# Altium schematic symbol library MIMX8MN6DVTJZAA.SchLib: 1 symbol
Pins are listed as number, name and electrical type; pins without a type are passive.

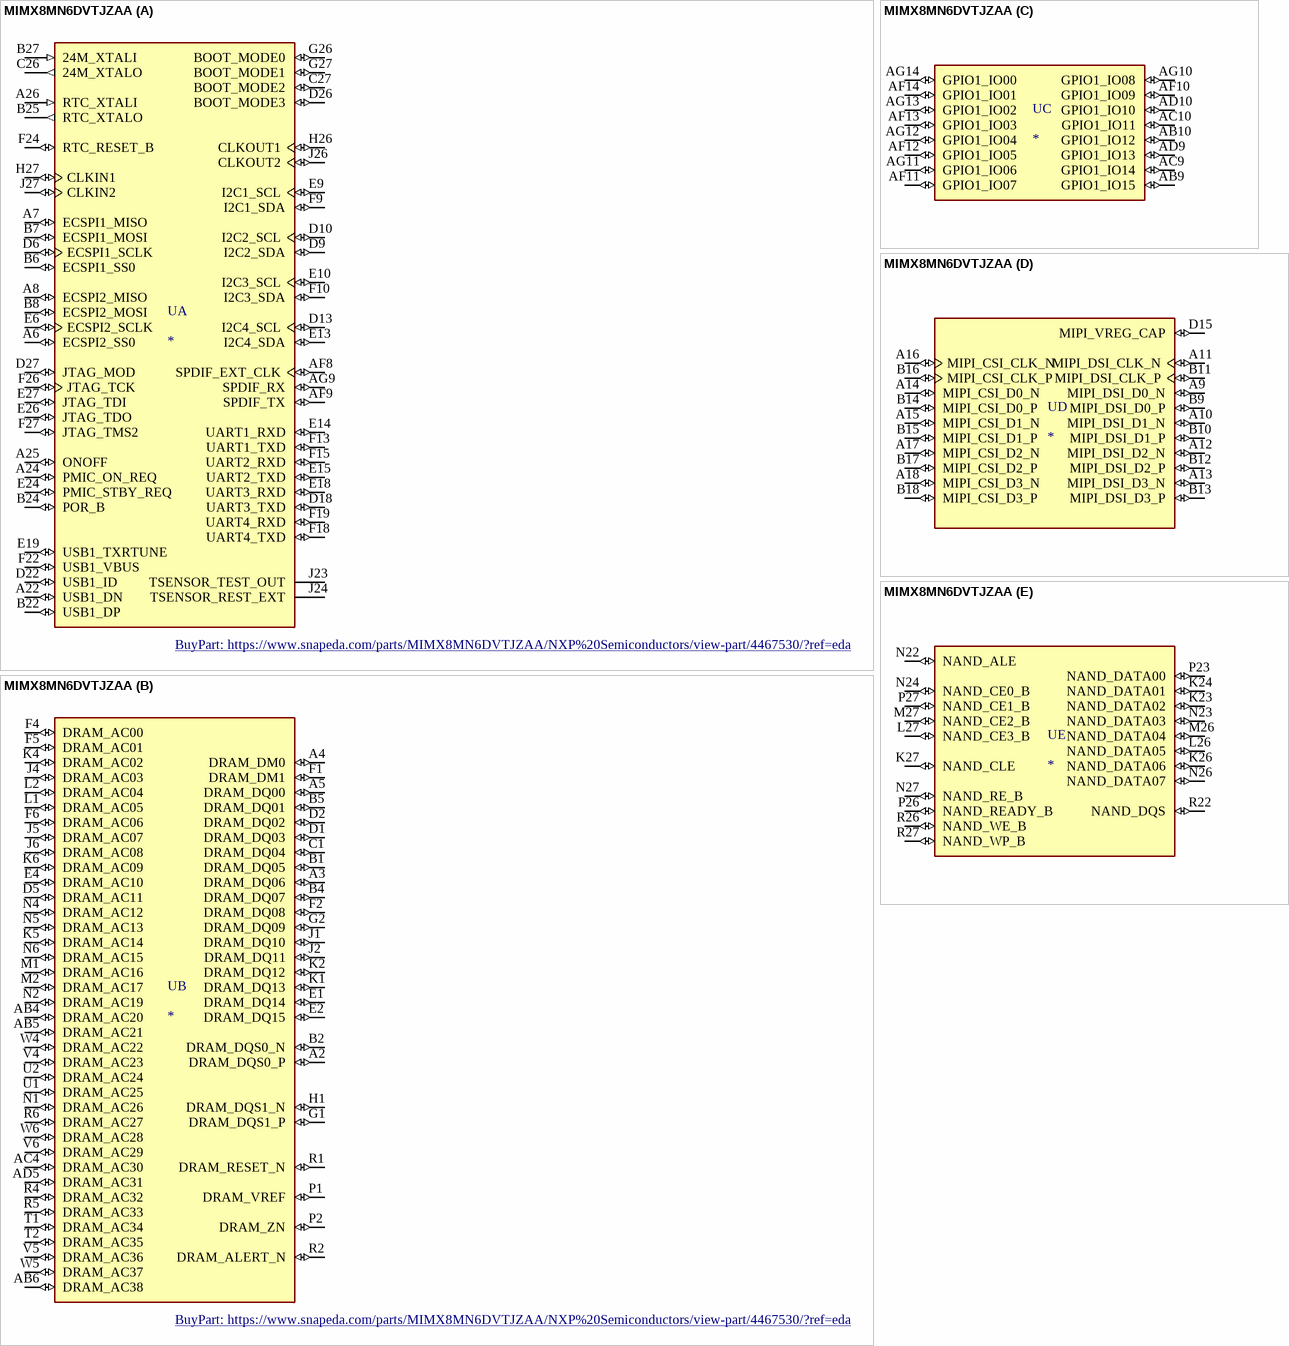
[diagram p0: symbol MIMX8MN6DVTJZAA]

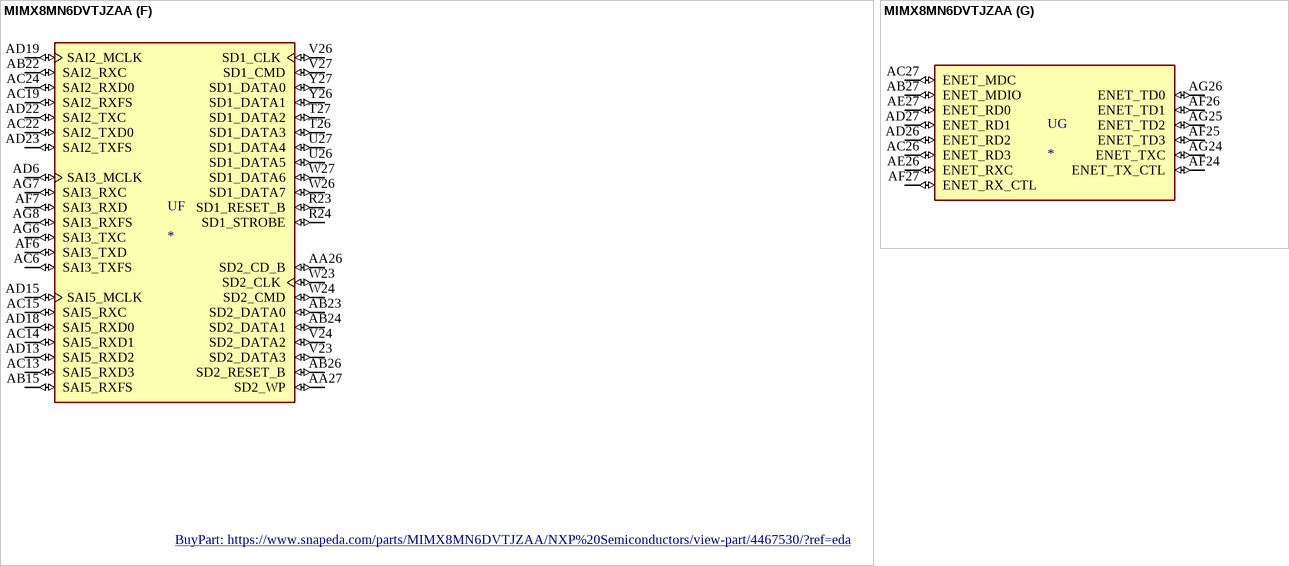
[diagram p1: symbol MIMX8MN6DVTJZAA]

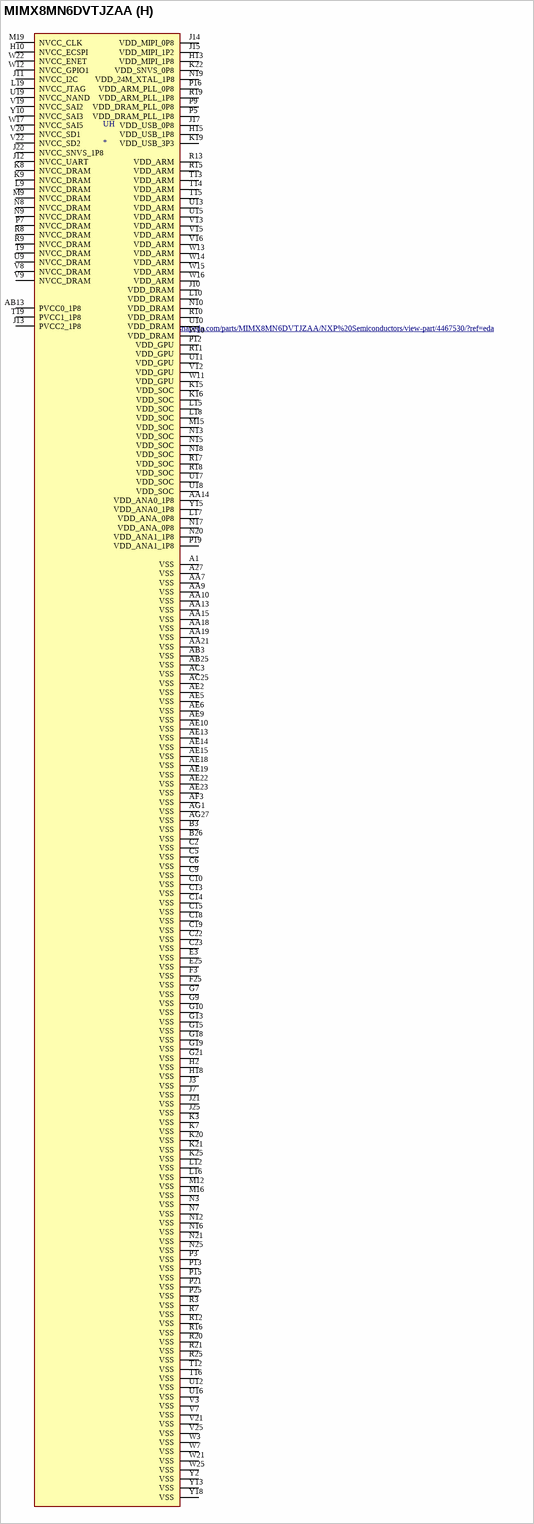
[diagram p2: symbol MIMX8MN6DVTJZAA]

## MIMX8MN6DVTJZAA
designator U
ARMÂ® CortexÂ®-A53 Microprocessor IC i.MX8MN 4 Core, 32-Bit 1.5GHz 486-LFBGA (14x14); MF: NXP USA Inc.; MP: MIMX8MN6DVTJZAA; Package: LFBGA-486 NXP USA Inc.; Price: None; Mouser-Purchase-URL: https://snapeda.com/shop?store=Mouser&id=4467530; Availability: Warning; SnapEDA_Link: https://www.snapeda.com/parts/MIMX8MN6DVTJZAA/NXP%20Semiconductors/view-part/4467530/?ref=snap; Value: *; Arrow_Electronics-Purchase-URL: https://snapeda.com/shop?store=Arrow+Electronics&id=4467530; BuyPart: https://www.snapeda.com/parts/MIMX8MN6DVTJZAA/NXP%20Semiconductors/view-part/4467530/?ref=eda
footprint BGA486N50P27X27_1400X1400X125N
part A pins: A6 ECSPI2_SS0 (io), A7 ECSPI1_MISO (io), A8 ECSPI2_MISO (io), A22 USB1_DN (io), A24 PMIC_ON_REQ (io), A25 ONOFF (io), A26 RTC_XTALI (in), AF8 SPDIF_EXT_CLK (io), AF9 SPDIF_TX (io), AG9 SPDIF_RX (io), B6 ECSPI1_SS0 (io), B7 ECSPI1_MOSI (io), B8 ECSPI2_MOSI (io), B22 USB1_DP (io), B24 POR_B (io), B25 RTC_XTALO (out), B27 24M_XTALI (in), C26 24M_XTALO (out), C27 BOOT_MODE2 (io), D6 ECSPI1_SCLK (io), D9 I2C2_SDA (io), D10 I2C2_SCL (io), D13 I2C4_SCL (io), D18 UART3_TXD (io), D22 USB1_ID (io), D26 BOOT_MODE3 (io), D27 JTAG_MOD (io), E6 ECSPI2_SCLK (io), E9 I2C1_SCL (io), E10 I2C3_SCL (io), E13 I2C4_SDA (io), E14 UART1_RXD (io), E15 UART2_TXD (io), E18 UART3_RXD (io), E19 USB1_TXRTUNE (io), E24 PMIC_STBY_REQ (io), E26 JTAG_TDO (io), E27 JTAG_TDI (io), F9 I2C1_SDA (io), F10 I2C3_SDA (io), F13 UART1_TXD (io), F15 UART2_RXD (io), F18 UART4_TXD (io), F19 UART4_RXD (io), F22 USB1_VBUS (io), F24 RTC_RESET_B (io), F26 JTAG_TCK (io), F27 JTAG_TMS2 (io), G26 BOOT_MODE0 (io), G27 BOOT_MODE1 (io), H26 CLKOUT1 (io), H27 CLKIN1 (io), J23 TSENSOR_TEST_OUT, J24 TSENSOR_REST_EXT, J26 CLKOUT2 (io), J27 CLKIN2 (io)
part B pins: A2 DRAM_DQS0_P (io), A3 DRAM_DQ06 (io), A4 DRAM_DM0 (io), A5 DRAM_DQ00 (io), AB4 DRAM_AC20 (io), AB5 DRAM_AC21 (io), AB6 DRAM_AC38 (io), AC4 DRAM_AC30 (io), AD5 DRAM_AC31 (io), B1 DRAM_DQ05 (io), B2 DRAM_DQS0_N (io), B4 DRAM_DQ07 (io), B5 DRAM_DQ01 (io), C1 DRAM_DQ04 (io), D1 DRAM_DQ03 (io), D2 DRAM_DQ02 (io), D5 DRAM_AC11 (io), E1 DRAM_DQ14 (io), E2 DRAM_DQ15 (io), E4 DRAM_AC10 (io), F1 DRAM_DM1 (io), F2 DRAM_DQ08 (io), F4 DRAM_AC00 (io), F5 DRAM_AC01 (io), F6 DRAM_AC06 (io), G1 DRAM_DQS1_P (io), G2 DRAM_DQ09 (io), H1 DRAM_DQS1_N (io), J1 DRAM_DQ10 (io), J2 DRAM_DQ11 (io), J4 DRAM_AC03 (io), J5 DRAM_AC07 (io), J6 DRAM_AC08 (io), K1 DRAM_DQ13 (io), K2 DRAM_DQ12 (io), K4 DRAM_AC02 (io), K5 DRAM_AC14 (io), K6 DRAM_AC09 (io), L1 DRAM_AC05 (io), L2 DRAM_AC04 (io), M1 DRAM_AC16 (io), M2 DRAM_AC17 (io), N1 DRAM_AC26 (io), N2 DRAM_AC19 (io), N4 DRAM_AC12 (io), N5 DRAM_AC13 (io), N6 DRAM_AC15 (io), P1 DRAM_VREF (io), P2 DRAM_ZN (io), R1 DRAM_RESET_N (io), R2 DRAM_ALERT_N (io), R4 DRAM_AC32 (io), R5 DRAM_AC33 (io), R6 DRAM_AC27 (io), T1 DRAM_AC34 (io), T2 DRAM_AC35 (io), U1 DRAM_AC25 (io), U2 DRAM_AC24 (io), V4 DRAM_AC23 (io), V5 DRAM_AC36 (io), V6 DRAM_AC29 (io), W4 DRAM_AC22 (io), W5 DRAM_AC37 (io), W6 DRAM_AC28 (io)
part C pins: AB9 GPIO1_IO15 (io), AB10 GPIO1_IO12 (io), AC9 GPIO1_IO14 (io), AC10 GPIO1_IO11 (io), AD9 GPIO1_IO13 (io), AD10 GPIO1_IO10 (io), AF10 GPIO1_IO09 (io), AF11 GPIO1_IO07 (io), AF12 GPIO1_IO05 (io), AF13 GPIO1_IO03 (io), AF14 GPIO1_IO01 (io), AG10 GPIO1_IO08 (io), AG11 GPIO1_IO06 (io), AG12 GPIO1_IO04 (io), AG13 GPIO1_IO02 (io), AG14 GPIO1_IO00 (io)
part D pins: A9 MIPI_DSI_D0_N (io), A10 MIPI_DSI_D1_N (io), A11 MIPI_DSI_CLK_N (io), A12 MIPI_DSI_D2_N (io), A13 MIPI_DSI_D3_N (io), A14 MIPI_CSI_D0_N (io), A15 MIPI_CSI_D1_N (io), A16 MIPI_CSI_CLK_N (io), A17 MIPI_CSI_D2_N (io), A18 MIPI_CSI_D3_N (io), B9 MIPI_DSI_D0_P (io), B10 MIPI_DSI_D1_P (io), B11 MIPI_DSI_CLK_P (io), B12 MIPI_DSI_D2_P (io), B13 MIPI_DSI_D3_P (io), B14 MIPI_CSI_D0_P (io), B15 MIPI_CSI_D1_P (io), B16 MIPI_CSI_CLK_P (io), B17 MIPI_CSI_D2_P (io), B18 MIPI_CSI_D3_P (io), D15 MIPI_VREG_CAP (io)
part E pins: K23 NAND_DATA02 (io), K24 NAND_DATA01 (io), K26 NAND_DATA06 (io), K27 NAND_CLE (io), L26 NAND_DATA05 (io), L27 NAND_CE3_B (io), M26 NAND_DATA04 (io), M27 NAND_CE2_B (io), N22 NAND_ALE (io), N23 NAND_DATA03 (io), N24 NAND_CE0_B (io), N26 NAND_DATA07 (io), N27 NAND_RE_B (io), P23 NAND_DATA00 (io), P26 NAND_READY_B (io), P27 NAND_CE1_B (io), R22 NAND_DQS (io), R26 NAND_WE_B (io), R27 NAND_WP_B (io)
part F pins: AA26 SD2_CD_B (io), AA27 SD2_WP (io), AB15 SAI5_RXFS (io), AB22 SAI2_RXC (io), AB23 SD2_DATA0 (io), AB24 SD2_DATA1 (io), AB26 SD2_RESET_B (io), AC6 SAI3_TXFS (io), AC13 SAI5_RXD3 (io), AC14 SAI5_RXD1 (io), AC15 SAI5_RXC (io), AC19 SAI2_RXFS (io), AC22 SAI2_TXD0 (io), AC24 SAI2_RXD0 (io), AD6 SAI3_MCLK (io), AD13 SAI5_RXD2 (io), AD15 SAI5_MCLK (io), AD18 SAI5_RXD0 (io), AD19 SAI2_MCLK (io), AD22 SAI2_TXC (io), AD23 SAI2_TXFS (io), AF6 SAI3_TXD (io), AF7 SAI3_RXD (io), AG6 SAI3_TXC (io), AG7 SAI3_RXC (io), AG8 SAI3_RXFS (io), R23 SD1_RESET_B (io), R24 SD1_STROBE (io), T26 SD1_DATA3 (io), T27 SD1_DATA2 (io), U26 SD1_DATA5 (io), U27 SD1_DATA4 (io), V23 SD2_DATA3 (io), V24 SD2_DATA2 (io), V26 SD1_CLK (io), V27 SD1_CMD (io), W23 SD2_CLK (io), W24 SD2_CMD (io), W26 SD1_DATA7 (io), W27 SD1_DATA6 (io), Y26 SD1_DATA1 (io), Y27 SD1_DATA0 (io)
part G pins: AB27 ENET_MDIO (io), AC26 ENET_RD3 (io), AC27 ENET_MDC (io), AD26 ENET_RD2 (io), AD27 ENET_RD1 (io), AE26 ENET_RXC (io), AE27 ENET_RD0 (io), AF24 ENET_TX_CTL (io), AF25 ENET_TD3 (io), AF26 ENET_TD1 (io), AF27 ENET_RX_CTL (io), AG24 ENET_TXC (io), AG25 ENET_TD2 (io), AG26 ENET_TD0 (io)
part H pins: A1 VSS (power), A27 VSS (power), AA7 VSS (power), AA9 VSS (power), AA10 VSS (power), AA13 VSS (power), AA14 VDD_ANA0_1P8 (power), AA15 VSS (power), AA18 VSS (power), AA19 VSS (power), AA21 VSS (power), AB3 VSS (power), AB13 PVCC0_1P8 (power), AB25 VSS (power), AC3 VSS (power), AC25 VSS (power), AE2 VSS (power), AE5 VSS (power), AE6 VSS (power), AE9 VSS (power), AE10 VSS (power), AE13 VSS (power), AE14 VSS (power), AE15 VSS (power), AE18 VSS (power), AE19 VSS (power), AE22 VSS (power), AE23 VSS (power), AF3 VSS (power), AG1 VSS (power), AG27 VSS (power), B3 VSS (power), B26 VSS (power), C2 VSS (power), C5 VSS (power), C6 VSS (power), C9 VSS (power), C10 VSS (power), C13 VSS (power), C14 VSS (power), C15 VSS (power), C18 VSS (power), C19 VSS (power), C22 VSS (power), C23 VSS (power), E3 VSS (power), E25 VSS (power), F3 VSS (power), F25 VSS (power), G7 VSS (power), G9 VSS (power), G10 VSS (power), G13 VSS (power), G15 VSS (power), G18 VSS (power), G19 VSS (power), G21 VSS (power), H2 VSS (power), H10 NVCC_ECSPI (power), H13 VDD_MIPI_1P8 (power), H15 VDD_USB_1P8 (power), H18 VSS (power), J3 VSS (power), J7 VSS (power), J10 VDD_DRAM (power), J11 NVCC_I2C (power), J12 NVCC_UART (power), J13 PVCC2_1P8 (power), J14 VDD_MIPI_0P8 (power), J15 VDD_MIPI_1P2 (power), J17 VDD_USB_0P8 (power), J21 VSS (power), J22 NVCC_SNVS_1P8 (power), J25 VSS (power), K3 VSS (power), K7 VSS (power), K8 NVCC_DRAM (power), K9 NVCC_DRAM (power), K15 VDD_SOC (power), K16 VDD_SOC (power), K19 VDD_USB_3P3 (power), K20 VSS (power), K21 VSS (power), K22 VDD_SNVS_0P8 (power), K25 VSS (power), L9 NVCC_DRAM (power), L10 VDD_DRAM (power), L12 VSS (power), L15 VDD_SOC (power), L16 VSS (power), L17 VDD_ANA_0P8 (power), L18 VDD_SOC (power), L19 NVCC_JTAG (power), M9 NVCC_DRAM (power), M12 VSS (power), M15 VDD_SOC (power), M16 VSS (power), M19 NVCC_CLK (power), N3 VSS (power), N7 VSS (power), N8 NVCC_DRAM (power), N9 NVCC_DRAM (power), N10 VDD_DRAM (power), N12 VSS (power), N13 VDD_SOC (power), N15 VDD_SOC (power), N16 VSS (power), N17 VDD_ANA_0P8 (power), N18 VDD_SOC (power), N19 VDD_24M_XTAL_1P8 (power), N20 VDD_ANA1_1P8 (power), N21 VSS (power), N25 VSS (power), P3 VSS (power), P5 VDD_DRAM_PLL_1P8 (power), P7 NVCC_DRAM (power), P9 VDD_DRAM_PLL_0P8 (power), P12 VDD_GPU (power), P13 VSS (power), P15 VSS (power), P16 VDD_ARM_PLL_0P8 (power), P19 VDD_ANA1_1P8 (power), P21 VSS (power), P25 VSS (power), R3 VSS (power), R7 VSS (power), R8 NVCC_DRAM (power), R9 NVCC_DRAM (power), R10 VDD_DRAM (power), R11 VDD_GPU (power), R12 VSS (power), R13 VDD_ARM (power), R15 VDD_ARM (power), R16 VSS (power), R17 VDD_SOC (power), R18 VDD_SOC (power), R19 VDD_ARM_PLL_1P8 (power), R20 VSS (power), R21 VSS (power), R25 VSS (power), T9 NVCC_DRAM (power), T12 VSS (power), T13 VDD_ARM (power), T14 VDD_ARM (power), T15 VDD_ARM (power), T16 VSS (power), T19 PVCC1_1P8 (power), U9 NVCC_DRAM (power), U10 VDD_DRAM (power), U11 VDD_GPU (power), U12 VSS (power), U13 VDD_ARM (power), U15 VDD_ARM (power), U16 VSS (power), U17 VDD_SOC (power), U18 VDD_SOC (power), U19 NVCC_NAND (power), V3 VSS (power), V7 VSS (power), V8 NVCC_DRAM (power), V9 NVCC_DRAM (power), V12 VDD_GPU (power), V13 VDD_ARM (power), V15 VDD_ARM (power), V16 VDD_ARM (power), V19 NVCC_SAI2 (power), V20 NVCC_SD1 (power), V21 VSS (power), V22 NVCC_SD2 (power), V25 VSS (power), W3 VSS (power), W7 VSS (power), W10 VDD_DRAM (power), W11 VDD_GPU (power), W12 NVCC_GPIO1 (power), W13 VDD_ARM (power), W14 VDD_ARM (power), W15 VDD_ARM (power), W16 VDD_ARM (power), W17 NVCC_SAI5 (power), W21 VSS (power), W22 NVCC_ENET (power), W25 VSS (power), Y2 VSS (power), Y10 NVCC_SAI3 (power), Y13 VSS (power), Y15 VDD_ANA0_1P8 (power), Y18 VSS (power)